# Altium footprint library DIY-USB Led Controller.PcbLib: 26 footprints (part 2 of 2)
Each footprint in its own frame and in the unit in brackets; x right, y up, seen from the top. Pads: shape width x height; smd on the part's side, far side on the other; paste and mask are expansions set on the pad; w line width, h text height; cw(c..) or ccw(c..) is an arc to the next point about the centre after c.
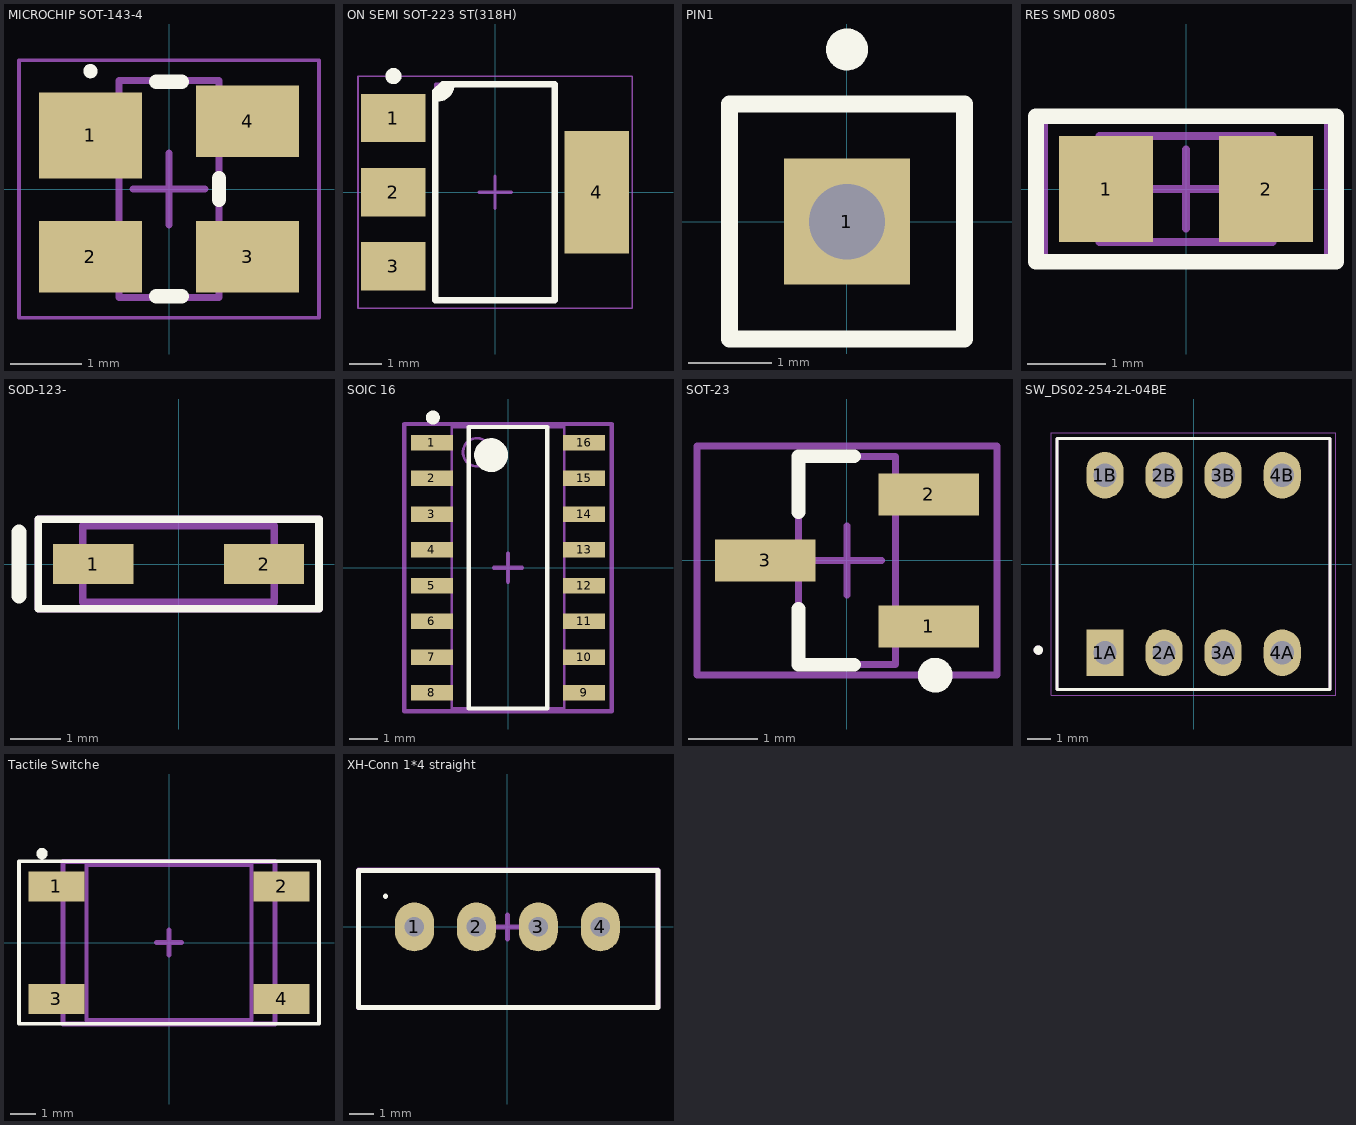
[diagram p1: the footprints below, top view; thin cyan lines are the x and y axes]

## MICROCHIP SOT-143-4 [mm] "SOT143, 4-Leads, Body 2.92x2.37mm, Pitch 1.90mm, IPC Medium Density"
height 1.2
pads (4):
  rect 1.44x1.2 smd: 1(-1.1,0.75)
  rect 1.44x1 smd: 2(-1.1,-0.95) 3(1.1,-0.95) 4(1.1,0.95)
Top Overlay:
  circle w0.1: c-1.1,1.65 r0.05
  lines w0.2: -0.18,-1.5 0.18,-1.5 ; -0.18,1.5 0.18,1.5 ; 0.7,-0.15 0.7,0.15
Mechanical 13:
  lines w0.1: -0.7,-1.52 -0.7,1.52 0.7,1.52 0.7,-1.52 -0.7,-1.52
Mechanical 15:
  lines w0.05: -2.1,-1.8 -2.1,1.8 2.1,1.8 2.1,-1.8 -2.1,-1.8
  lines w0.1: -0.5,0 0.5,0 ; 0,-0.5 0,0.5
3D body "SOT-143-4.STEP": height 1.05, standoff 0, extent -1.189,-1.46 1.19,1.46

## ON SEMI SOT-223 ST(318H) [mm] "SOT223, 4-Leads, Body 6.50x7.00mm (avg), Pitch 2.30mm, IPC Medium Density"
height 1.8
pads (4):
  rect 2x1.5 smd: 1(-3.15,2.3) 2(-3.15,0) 3(-3.15,-2.3)
  rect 2x3.8 smd: 4(3.15,0)
Top Overlay:
  circle w0.25: c-3.15,3.6 r0.125
  region: -1.65,3.275 -1.35,3.35 -1.35,3.2 -1.65,2.9 -1.85,2.9
  lines w0.2: -1.85,2.9 -1.8,2.9 ccw(c-1.8,3.35) -1.35,3.35 ; -1.85,-3.35 1.85,-3.35 1.85,3.35 -1.625,3.35 -1.85,3.125 -1.85,-3.35
Mechanical 13:
  lines w0.1: -1.85,-3.35 -1.85,3.35 1.85,3.35 1.85,-3.35 -1.85,-3.35
Mechanical 15:
  lines w0.05: -4.25,-3.6 -4.25,3.6 4.25,3.6 4.25,-3.6 -4.25,-3.6
  lines w0.1: -0.5,0 0.5,0 ; 0,-0.5 0,0.5
3D body "SOT-223.STEP": height 1.8, standoff 0, extent -3.516,-3.25 3.5,3.25

## PIN1 [mm] "Connector; Plug"
pads (1):
  rect 1.5x1.5 hole 0.9: 1(0,0)
Top Overlay:
  circle w0.25: c0,2.05 r0.125
  lines w0.2: -1.4,-1.4 1.4,-1.4 1.4,1.4 -1.4,1.4 -1.4,-1.4

## RES SMD 0805 [mm]
pads (2):
  rect 1.2x1.35 smd: 1(-1.016,0) 2(1.016,0)
Top Overlay:
  lines w0.2: -1.905,-0.925 -1.905,0.925 1.905,0.925 1.905,-0.925 -1.905,-0.925
Mechanical 13:
  lines w0.1: -1.1,-0.675 1.1,-0.675 1.1,0.675 -1.1,0.675 -1.1,-0.675
Mechanical 15:
  lines w0.1: -0.5,0 0.5,0 ; 0,-0.5 0,0.5 ; -1.8,-0.925 1.8,-0.925 1.8,0.925 -1.8,0.925 -1.8,-0.925
3D body "0805 SMD Resistor.step": height 0.78, standoff 0, extent -1,-0.625 1,0.625

## SOD-123- [mm] "SOD-123; 2 Leads; Body 2.7 x 1.6 mm, (LxW)"
height 1.35
pads (2):
  rect 1.6x0.8 smd: 1(-1.7,0) 2(1.7,0)
Top Overlay:
  lines w0.15: -2.794,-0.889 -2.794,0.889 2.794,0.889 2.794,-0.889 -2.794,-0.889
  lines w0.3: -3.175,-0.635 -3.175,0.635
Mechanical 1:
  lines w0.15: -1.905,-0.762 -1.905,0.762 1.905,0.762 1.905,-0.762 -1.905,-0.762
Mechanical 15:
  lines w0.15: -2.794,-0.889 2.794,-0.889 2.794,0.889 -2.794,0.889 -2.794,-0.889
3D body "CircuitWorks-SOD123.step": height 1.27, standoff 0, extent -1.85,-0.8 1.85,0.8

## SOIC 16 [mm]
height 6.34
pads (16):
  rect 1.5x0.55 smd: 1(-2.7,4.445) 2(-2.7,3.175) 3(-2.7,1.905) 4(-2.7,0.635) 5(-2.7,-0.635) 6(-2.7,-1.905) 7(-2.7,-3.175) 8(-2.7,-4.445) 9(2.7,-4.445) 10(2.7,-3.175) 11(2.7,-1.905) 12(2.7,-0.635) 13(2.7,0.635) 14(2.7,1.905) 15(2.7,3.175) 16(2.7,4.445)
Top Overlay:
  circle w0.25: c-2.667,5.334 r0.125
  circle w0.6: c-0.6,4 r0.3
  lines w0.15: -1.397,-5 -1.397,5 1.397,5 1.397,-5 -1.397,-5
Mechanical 1:
  circle w0.1: c-1.1,4.1 r0.5
  lines w0.1: -2,-5 -2,5 2,5 2,-5 -2,-5
Mechanical 15:
  lines w0.15: -0.5,0 0.5,0 ; 0,-0.5 0,0.5 ; -3.683,-5.1 -3.683,5.1 3.683,5.1 3.683,-5.1 -3.683,-5.1
3D body "User Library-SOIC-16-1.step": height 1.4, standoff 0, extent -3,-4.95 3,4.95

## SOT-23 [mm]
pads (3):
  rect 1.45x0.6 smd: 1(1.175,-0.95) 2(1.175,0.95) 3(-1.175,0)
Top Overlay:
  circle w0.25: c1.27,-1.651 r0.125
  lines w0.2: -0.7,-0.7 -0.7,-1.5 0.1,-1.5 ; -0.7,0.7 -0.7,1.5 0.1,1.5
Mechanical 13:
  lines w0.1: -0.7,-1.5 0.7,-1.5 0.7,1.5 -0.7,1.5 -0.7,-1.5
Mechanical 15:
  lines w0.1: -0.5,0 0.5,0 ; 0,-0.5 0,0.5 ; -2.159,-1.651 2.159,-1.651 2.159,1.651 -2.159,1.651 -2.159,-1.651
3D body "User Library-SOT95P240X110-3M[SOT23-3_TO-236AB].step": height 1.09, standoff 0, extent -1.123,-1.5 1.377,1.5

## SW_DS02-254-2L-04BE [mm]
pads (8):
  rect 1.6x2 hole 1: 1A(-3.81,-3.81)
  oval 1.6x2 hole 1: 1B(-3.81,3.81) 2A(-1.27,-3.81) 2B(-1.27,3.81) 3A(1.27,-3.81) 3B(1.27,3.81) 4A(3.81,-3.81) 4B(3.81,3.81)
Top Overlay:
  circle w0.2: c-6.67,-3.7 r0.1
  lines w0.127: -5.87,-5.4 -5.87,5.4 5.87,5.4 5.87,-5.4 -5.87,-5.4
Mechanical 13:
  circle w0.2: c-6.67,-3.7 r0.1
  lines w0.127: -5.87,-5.4 -5.87,5.4 5.87,5.4 5.87,-5.4 -5.87,-5.4
Mechanical 15:
  lines w0.05: -6.12,-5.65 6.12,-5.65 6.12,5.65 -6.12,5.65 -6.12,-5.65
3D body "CUI_DEVICES_DS02-254-1L-03BE.step": height 9.46, standoff -3.8, extent -5.888,-7.837 3.302,5.043

## Tactile Switche [mm] "SWITCH TACTILE SPST-NO 0.05A 12V  6mm*6mm"
height 3
pads (4):
  rect 2.25x1.2 smd: 1(-4.5,2.25) 2(4.5,2.25) 3(-4.5,-2.25) 4(4.5,-2.25)
Top Overlay:
  circle w0.254: c-5.08,3.556 r0.1
  lines w0.15: -6,-3.25 6,-3.25 6,3.25 -6,3.25 -6,-3.25
Mechanical 1:
  lines w0.15: -3.302,-3.1 3.302,-3.1 3.302,3.1 -3.302,3.1 -3.302,-3.1
Mechanical 15:
  lines w0.2: -0.5,0 0.5,0 ; 0,-0.5 0,0.5 ; -4.25,-3.25 -4.25,3.25 4.25,3.25 4.25,-3.25 -4.25,-3.25
3D body "User Library-PTS645SL50SMTR92-LFS.STEP": height 5, standoff 0, extent -4.5,-3 4.5,3

## XH-Conn 1*4 straight [mm] "100 pcs XH JST 2.5mm 4-Pin Straight Socket Male Connector Header"
height 8.51
pads (4):
  oval 1.6x2 hole 0.8: 1(-3.81,0) 2(-1.27,0) 3(1.27,0) 4(3.81,0)
Top Overlay:
  lines w0.2: -5,1.24 -5,1.27 ; -6.096,-3.302 6.172,-3.302 6.172,2.311 -6.096,2.311 -6.096,-3.302
Mechanical 1:
  lines w0.15: -6.121,-3.327 -6.121,2.286 6.172,2.286 6.172,-3.327 -6.121,-3.327
Mechanical 15:
  lines w0.2: -0.5,0 0.5,0 ; 0,-0.5 0,0.5 ; -6.096,-3.302 6.172,-3.302 6.172,2.337 -6.096,2.337 -6.096,-3.302
3D body "User Library-B4B-XH.STEP": height 7, standoff -3.4, extent -6.16,-3.4 6.24,2.35